# Altium schematic symbol library axsem_sheets_v1-1.SCHLIB: 2 symbols
Pins are listed as number, name and electrical type; pins without a type are passive.

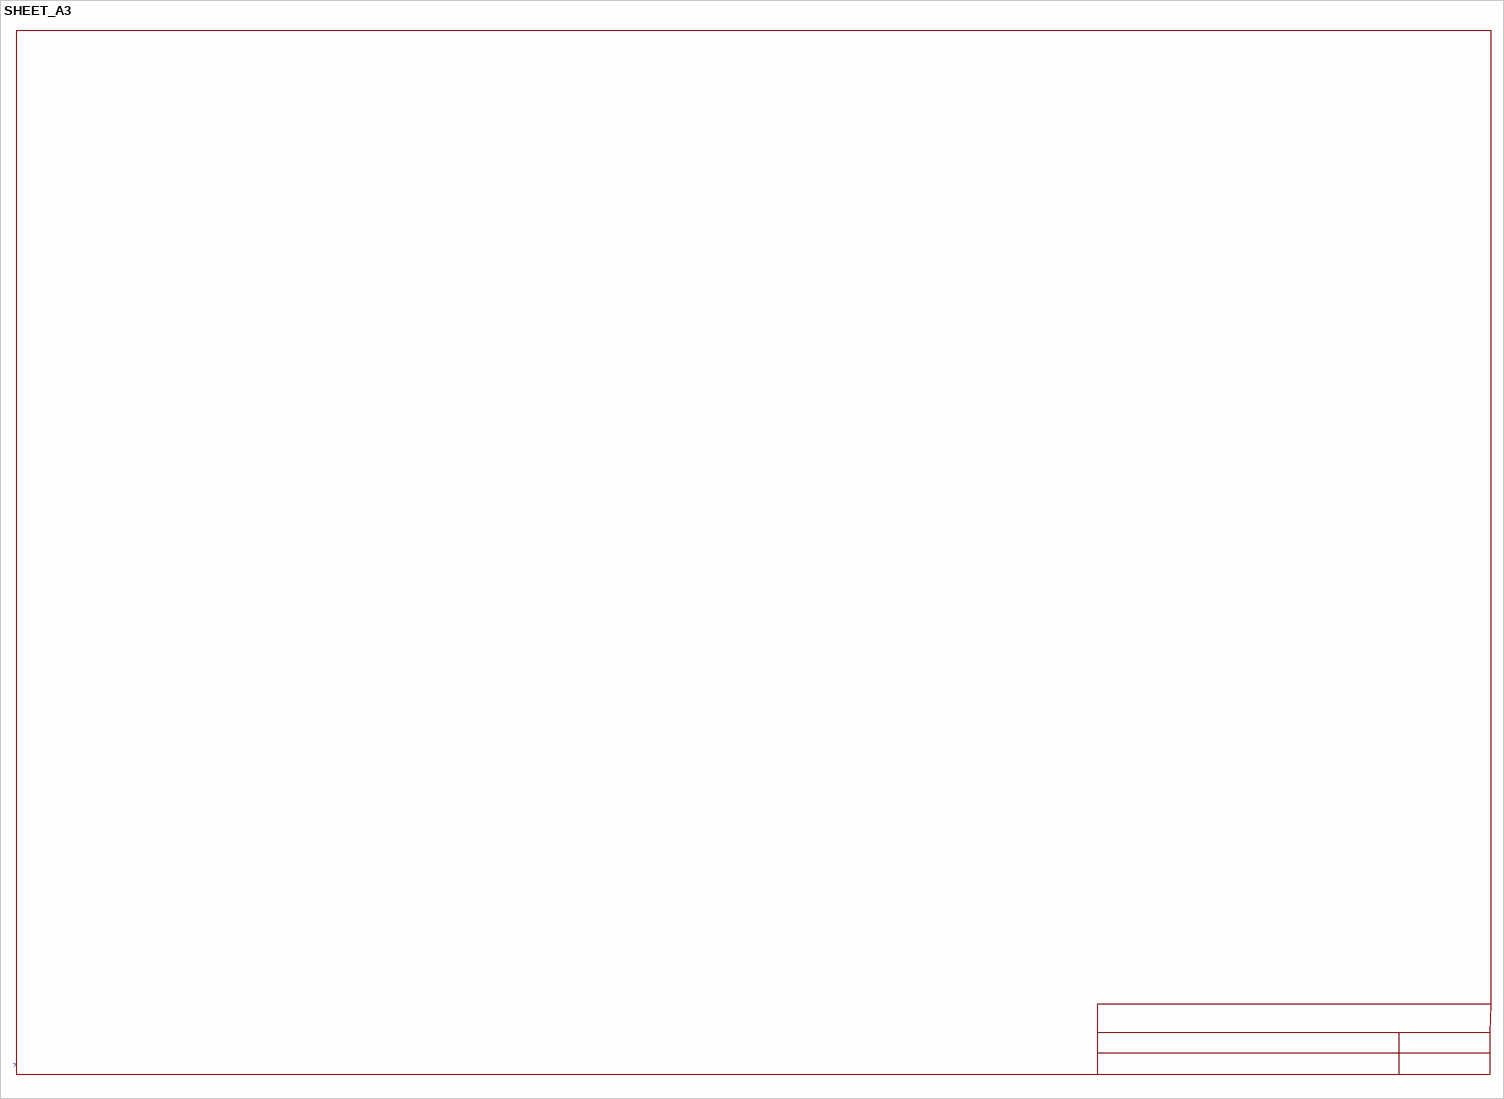
[diagram p0: symbol SHEET_A3]

## SHEET_A3
designator ?
footprint FRAME1

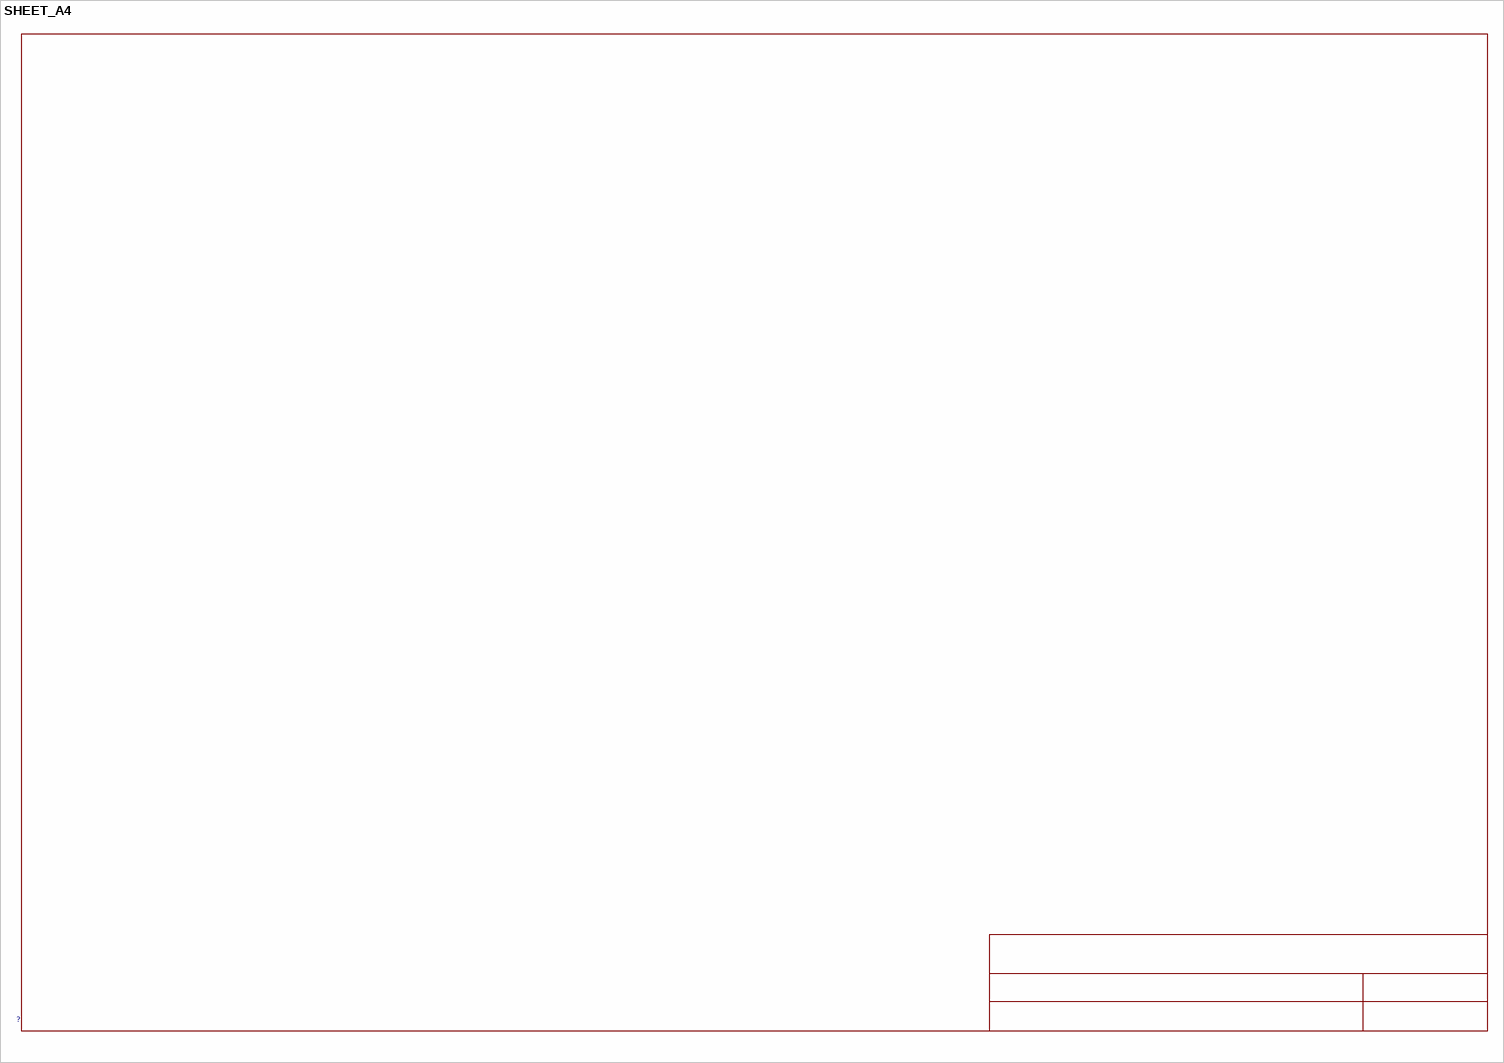
[diagram p1: symbol SHEET_A4]

## SHEET_A4
designator ?
footprint FRAME1